# EAGLE library part 16F648A (library PIC)
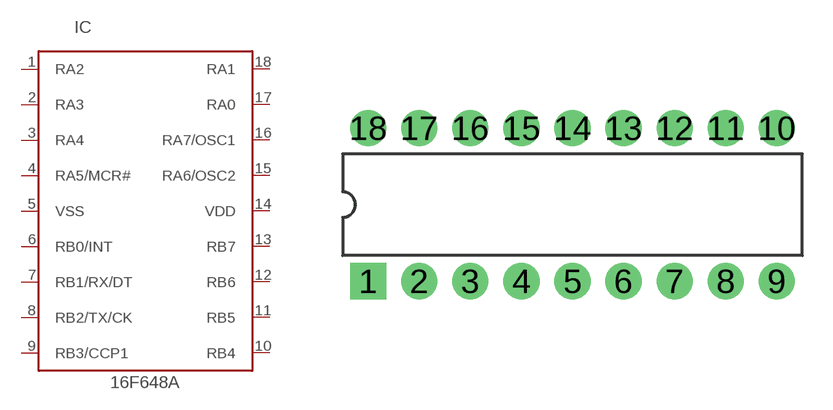
[diagram p0: symbol with the pads of 18PIN; footprint 18PIN]

Designator prefix IC

## 16F648A  [18PIN]
1  RA2
2  RA3
3  RA4
4  RA5/MCR#  in
5  VSS  pwr
6  RB0/INT
7  RB1/RX/DT
8  RB2/TX/CK
9  RB3/CCP1
10  RB4
11  RB5
12  RB6
13  RB7
14  VDD  pwr
15  RA6/OSC2
16  RA7/OSC1
17  RA0
18  RA1

## Footprint 18PIN (pad centres in mm)
18pin
drill 1 pad 1.8 square: 1 -10.16,-3.81
drill 1 pad 1.8: 2 -7.62,-3.81; 3 -5.08,-3.81; 4 -2.54,-3.81; 5 0,-3.81; 6 2.54,-3.81; 7 5.08,-3.81; 8 7.62,-3.81; 9 10.16,-3.81; 10 10.16,3.81; 11 7.62,3.81; 12 5.08,3.81; 13 2.54,3.81; 14 0,3.81; 15 -2.54,3.81; 16 -5.08,3.81; 17 -7.62,3.81; 18 -10.16,3.81